# Altium schematic symbol library Anderson Power Dual 30Amp.SchLib: 1 symbol
Pins are listed as number, name and electrical type; pins without a type are passive.

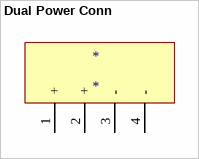
[diagram p0: symbol Dual Power Conn]

## Dual Power Conn
designator *
footprint Dual 12Ga Power Connection
pins: 1 +, 2 +, 3 -, 4 -